# Altium integrated library Analog Devices Data Converters Digital-to-Analog Converters.IntLib: 2231 symbols (part 91 of 181)
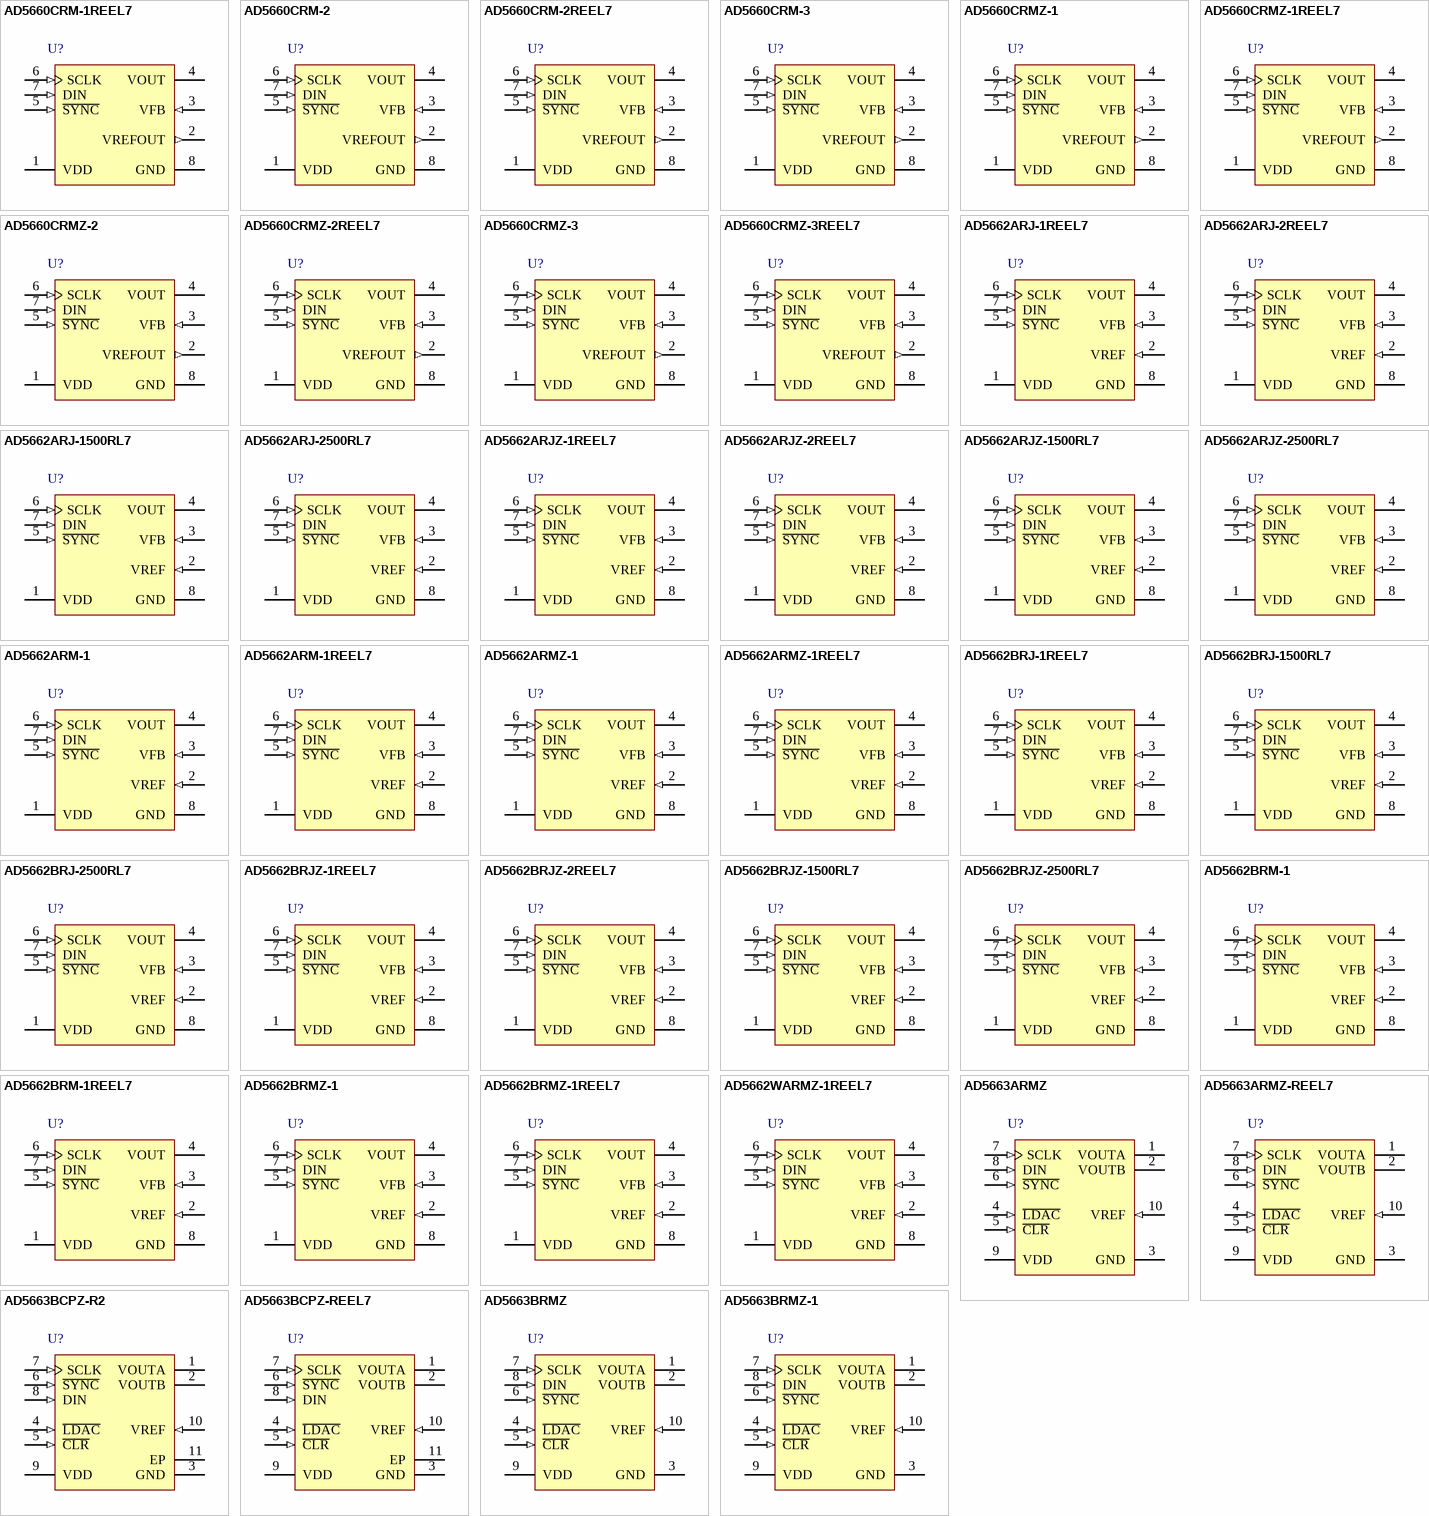
[diagram p204: symbols AD5660CRM-1REEL7 to AD5663BRMZ-1]

## AD5662BRJ-2500RL7
designator U?
Single 16-Bit Rail-to-Rail Output nanoDAC, 2.7 V to 5.5 V, 250 uA, -40 to +125 degC, RJ-8, Reel; Generic Part Number: AD5662; Manufacturer: Analog Devices; PartNumber: AD5662BRJ-2500RL7; # DAC Outputs: 1; Max V+: 5.5V; Op Pwr Diss: 1.25mW; Resolution (Bits): 16; Settling Time: 8µs; Single Supply: Yes; DatasheetVersion: Rev.A; PackageVersion: 121608-A; PackageReference: RJ-8; PackageDescription: 8-Lead Thin Small Outline Transistor Package [SOT-23]; Supplier 1: Digi-Key; Supplier Part Number 1: AD5662BRJ-2500RL7-ND; Supplier 2: Newark; Supplier Part Number 2: 59K4303; Supplier 3: Mouser; Supplier Part Number 3: 584-AD5662BRJ-2500R7; Packing: Reel; RoHS: N; Mounting Technology: Surface Mount; Code_JEDEC: MO-178-BA; ComponentLink1Description: Manufacturer URL; ComponentLink1URL: http://www.analog.com/en/index.html; ComponentLink2Description: Datasheet; ComponentLink2URL: http://www.analog.com/static/imported-files/data_sheets/AD5662.pdf; ComponentLink3Description: Package Specification; ComponentLink3URL: http://www.analog.com/static/imported-files/packages/PKG_PDF/SOT-23(RJ)/RJ_8.pdf; ComponentLink4Description: Product URL; ComponentLink4URL: http://www.analog.com/en/digital-to-analog-converters/da-converters/ad5662/products/product.html; ComponentLink5Description: Reference Design URL; ComponentLink5URL: http://www.analog.com/en/digital-to-analog-converters/da-converters/ad5662/products/product.html#prod_cross_sell
footprint RJ-8_N (SOP, 8-Leads, Body 2.9x1.6mm, Pitch 0.65mm, IPC Medium Density)
footprint RJ-8_L (SOP, 8-Leads, Body 2.9x1.6mm, Pitch 0.65mm, IPC High Density)
footprint RJ-8_M (SOP, 8-Leads, Body 2.9x1.6mm, Pitch 0.65mm, IPC Low Density)
pins: 1 VDD (power) "Power Supply Input. These parts can be operated from 2.7 V to 5.5 V. VDD should be decoupled to GND.", 2 VREF (in) "Reference Voltage Input.", 3 VFB (in) "Feedback Connection for the Output Amplifier. VFB should be connected to VOUT for normal operation.", 4 VOUT (hiz) "Analog Output Voltage from DAC. The output amplifier has rail-to-rail operation.", 5 ~{SYNC} (in) "Level-Triggered Control Input (Active Low). This is the frame synchronization signal for the input data. When S\Y\N\C\ goes low, it enables the input shift register, and data is transferred in on the falling edges of the (See Datasheet)", 6 SCLK (in) "Serial Clock Input. Data is clocked into the input shift register on the falling edge of the serial clock input. Data can be transferred at rates up to 30 MHz.", 7 DIN (in) "Serial Data Input. This device has a 24-bit shift register. Data is clocked into the register on the falling edge of the serial clock input.", 8 GND (power) "Ground Reference Point for All Circuitry on the Part."

## AD5662BRJZ-1REEL7
designator U?
Single 16-Bit Rail-to-Rail Output nanoDAC, 2.7 V to 5.5 V, 250 uA, -40 to +125 degC, RJ-8, Pb-Free, Reel; Generic Part Number: AD5662; Manufacturer: Analog Devices; PartNumber: AD5662BRJZ-1REEL7; # DAC Outputs: 1; Max V+: 5.5V; Op Pwr Diss: 1.25mW; Resolution (Bits): 16; Settling Time: 8µs; Single Supply: Yes; DatasheetVersion: Rev.A; PackageVersion: 121608-A; PackageReference: RJ-8; PackageDescription: 8-Lead Thin Small Outline Transistor Package [SOT-23]; Supplier 1: Digi-Key; Supplier Part Number 1: AD5662BRJZ-1REEL7TR-ND; Supplier 2: Digi-Key; Supplier Part Number 2: AD5662BRJZ-1REEL7CT-ND; Supplier 3: Digi-Key; Supplier Part Number 3: AD5662BRJZ-1REEL7DKR-ND; Supplier 4: Farnell; Supplier Part Number 4: 2314131; Supplier 5: Newark; Supplier Part Number 5: 67W3166; Supplier 6: Newark; Supplier Part Number 6: 28M4004; Supplier 7: Mouser; Supplier Part Number 7: 584-AD5662BRJZ-1R7; Packing: Reel; RoHS: Y; Mounting Technology: Surface Mount; Code_JEDEC: MO-178-BA; ComponentLink1Description: Manufacturer URL; ComponentLink1URL: http://www.analog.com/en/index.html; ComponentLink2Description: Datasheet; ComponentLink2URL: http://www.analog.com/static/imported-files/data_sheets/AD5662.pdf; ComponentLink3Description: Package Specification; ComponentLink3URL: http://www.analog.com/static/imported-files/packages/PKG_PDF/SOT-23(RJ)/RJ_8.pdf; ComponentLink4Description: Product URL; ComponentLink4URL: http://www.analog.com/en/digital-to-analog-converters/da-converters/ad5662/products/product.html; ComponentLink5Description: Reference Design URL; ComponentLink5URL: http://www.analog.com/en/digital-to-analog-converters/da-converters/ad5662/products/product.html#prod_cross_sell
footprint RJ-8_N (SOP, 8-Leads, Body 2.9x1.6mm, Pitch 0.65mm, IPC Medium Density)
footprint RJ-8_L (SOP, 8-Leads, Body 2.9x1.6mm, Pitch 0.65mm, IPC High Density)
footprint RJ-8_M (SOP, 8-Leads, Body 2.9x1.6mm, Pitch 0.65mm, IPC Low Density)
pins: 1 VDD (power) "Power Supply Input. These parts can be operated from 2.7 V to 5.5 V. VDD should be decoupled to GND.", 2 VREF (in) "Reference Voltage Input.", 3 VFB (in) "Feedback Connection for the Output Amplifier. VFB should be connected to VOUT for normal operation.", 4 VOUT (hiz) "Analog Output Voltage from DAC. The output amplifier has rail-to-rail operation.", 5 ~{SYNC} (in) "Level-Triggered Control Input (Active Low). This is the frame synchronization signal for the input data. When S\Y\N\C\ goes low, it enables the input shift register, and data is transferred in on the falling edges of the (See Datasheet)", 6 SCLK (in) "Serial Clock Input. Data is clocked into the input shift register on the falling edge of the serial clock input. Data can be transferred at rates up to 30 MHz.", 7 DIN (in) "Serial Data Input. This device has a 24-bit shift register. Data is clocked into the register on the falling edge of the serial clock input.", 8 GND (power) "Ground Reference Point for All Circuitry on the Part."

## AD5662BRJZ-2REEL7
designator U?
Single 16-Bit Rail-to-Rail Output nanoDAC, 2.7 V to 5.5 V, 250 uA, -40 to +125 degC, RJ-8, Pb-Free, Reel; Generic Part Number: AD5662; Manufacturer: Analog Devices; PartNumber: AD5662BRJZ-2REEL7; # DAC Outputs: 1; Max V+: 5.5V; Op Pwr Diss: 1.25mW; Resolution (Bits): 16; Settling Time: 8µs; Single Supply: Yes; DatasheetVersion: Rev.A; PackageVersion: 121608-A; PackageReference: RJ-8; PackageDescription: 8-Lead Thin Small Outline Transistor Package [SOT-23]; Supplier 1: Digi-Key; Supplier Part Number 1: AD5662BRJZ-2REEL7TR-ND; Supplier 2: Digi-Key; Supplier Part Number 2: AD5662BRJZ-2REEL7CT-ND; Supplier 3: Digi-Key; Supplier Part Number 3: AD5662BRJZ-2REEL7DKR-ND; Supplier 4: Farnell; Supplier Part Number 4: 2314132; Supplier 5: Newark; Supplier Part Number 5: 59K4304; Supplier 6: Newark; Supplier Part Number 6: 67W3167; Supplier 7: Mouser; Supplier Part Number 7: 584-AD5662BRJZ-2R7; Packing: Reel; RoHS: Y; Mounting Technology: Surface Mount; Code_JEDEC: MO-178-BA; ComponentLink1Description: Manufacturer URL; ComponentLink1URL: http://www.analog.com/en/index.html; ComponentLink2Description: Datasheet; ComponentLink2URL: http://www.analog.com/static/imported-files/data_sheets/AD5662.pdf; ComponentLink3Description: Package Specification; ComponentLink3URL: http://www.analog.com/static/imported-files/packages/PKG_PDF/SOT-23(RJ)/RJ_8.pdf; ComponentLink4Description: Product URL; ComponentLink4URL: http://www.analog.com/en/digital-to-analog-converters/da-converters/ad5662/products/product.html; ComponentLink5Description: Reference Design URL; ComponentLink5URL: http://www.analog.com/en/digital-to-analog-converters/da-converters/ad5662/products/product.html#prod_cross_sell
footprint RJ-8_N (SOP, 8-Leads, Body 2.9x1.6mm, Pitch 0.65mm, IPC Medium Density)
footprint RJ-8_L (SOP, 8-Leads, Body 2.9x1.6mm, Pitch 0.65mm, IPC High Density)
footprint RJ-8_M (SOP, 8-Leads, Body 2.9x1.6mm, Pitch 0.65mm, IPC Low Density)
pins: 1 VDD (power) "Power Supply Input. These parts can be operated from 2.7 V to 5.5 V. VDD should be decoupled to GND.", 2 VREF (in) "Reference Voltage Input.", 3 VFB (in) "Feedback Connection for the Output Amplifier. VFB should be connected to VOUT for normal operation.", 4 VOUT (hiz) "Analog Output Voltage from DAC. The output amplifier has rail-to-rail operation.", 5 ~{SYNC} (in) "Level-Triggered Control Input (Active Low). This is the frame synchronization signal for the input data. When S\Y\N\C\ goes low, it enables the input shift register, and data is transferred in on the falling edges of the (See Datasheet)", 6 SCLK (in) "Serial Clock Input. Data is clocked into the input shift register on the falling edge of the serial clock input. Data can be transferred at rates up to 30 MHz.", 7 DIN (in) "Serial Data Input. This device has a 24-bit shift register. Data is clocked into the register on the falling edge of the serial clock input.", 8 GND (power) "Ground Reference Point for All Circuitry on the Part."

## AD5662BRJZ-1500RL7
designator U?
Single 16-Bit Rail-to-Rail Output nanoDAC, 2.7 V to 5.5 V, 250 uA, -40 to +125 degC, RJ-8, Pb-Free, Reel; Generic Part Number: AD5662; Manufacturer: Analog Devices; PartNumber: AD5662BRJZ-1500RL7; # DAC Outputs: 1; Max V+: 5.5V; Op Pwr Diss: 1.25mW; Resolution (Bits): 16; Settling Time: 8µs; Single Supply: Yes; DatasheetVersion: Rev.A; PackageVersion: 121608-A; PackageReference: RJ-8; PackageDescription: 8-Lead Thin Small Outline Transistor Package [SOT-23]; Supplier 1: Digi-Key; Supplier Part Number 1: AD5662BRJZ-1500RL7-ND; Supplier 2: Mouser; Supplier Part Number 2: 584-AD5662BRJZ1500R7; Packing: Reel; RoHS: Y; Mounting Technology: Surface Mount; Code_JEDEC: MO-178-BA; ComponentLink1Description: Manufacturer URL; ComponentLink1URL: http://www.analog.com/en/index.html; ComponentLink2Description: Datasheet; ComponentLink2URL: http://www.analog.com/static/imported-files/data_sheets/AD5662.pdf; ComponentLink3Description: Package Specification; ComponentLink3URL: http://www.analog.com/static/imported-files/packages/PKG_PDF/SOT-23(RJ)/RJ_8.pdf; ComponentLink4Description: Product URL; ComponentLink4URL: http://www.analog.com/en/digital-to-analog-converters/da-converters/ad5662/products/product.html; ComponentLink5Description: Reference Design URL; ComponentLink5URL: http://www.analog.com/en/digital-to-analog-converters/da-converters/ad5662/products/product.html#prod_cross_sell
footprint RJ-8_N (SOP, 8-Leads, Body 2.9x1.6mm, Pitch 0.65mm, IPC Medium Density)
footprint RJ-8_L (SOP, 8-Leads, Body 2.9x1.6mm, Pitch 0.65mm, IPC High Density)
footprint RJ-8_M (SOP, 8-Leads, Body 2.9x1.6mm, Pitch 0.65mm, IPC Low Density)
pins: 1 VDD (power) "Power Supply Input. These parts can be operated from 2.7 V to 5.5 V. VDD should be decoupled to GND.", 2 VREF (in) "Reference Voltage Input.", 3 VFB (in) "Feedback Connection for the Output Amplifier. VFB should be connected to VOUT for normal operation.", 4 VOUT (hiz) "Analog Output Voltage from DAC. The output amplifier has rail-to-rail operation.", 5 ~{SYNC} (in) "Level-Triggered Control Input (Active Low). This is the frame synchronization signal for the input data. When S\Y\N\C\ goes low, it enables the input shift register, and data is transferred in on the falling edges of the (See Datasheet)", 6 SCLK (in) "Serial Clock Input. Data is clocked into the input shift register on the falling edge of the serial clock input. Data can be transferred at rates up to 30 MHz.", 7 DIN (in) "Serial Data Input. This device has a 24-bit shift register. Data is clocked into the register on the falling edge of the serial clock input.", 8 GND (power) "Ground Reference Point for All Circuitry on the Part."

## AD5662BRJZ-2500RL7
designator U?
Single 16-Bit Rail-to-Rail Output nanoDAC, 2.7 V to 5.5 V, 250 uA, -40 to +125 degC, RJ-8, Pb-Free, Reel; Generic Part Number: AD5662; Manufacturer: Analog Devices; PartNumber: AD5662BRJZ-2500RL7; # DAC Outputs: 1; Max V+: 5.5V; Op Pwr Diss: 1.25mW; Resolution (Bits): 16; Settling Time: 8µs; Single Supply: Yes; DatasheetVersion: Rev.A; PackageVersion: 121608-A; PackageReference: RJ-8; PackageDescription: 8-Lead Thin Small Outline Transistor Package [SOT-23]; Supplier 1: Digi-Key; Supplier Part Number 1: AD5662BRJZ-2500RL7TR-ND; Supplier 2: Digi-Key; Supplier Part Number 2: AD5662BRJZ-2500RL7CT-ND; Supplier 3: Digi-Key; Supplier Part Number 3: AD5662BRJZ-2500RL7DKR-ND; Supplier 4: Newark; Supplier Part Number 4: 59K4305; Supplier 5: Mouser; Supplier Part Number 5: 584-AD5662BRJZ2500R7; Packing: Reel; RoHS: Y; Mounting Technology: Surface Mount; Code_JEDEC: MO-178-BA; ComponentLink1Description: Manufacturer URL; ComponentLink1URL: http://www.analog.com/en/index.html; ComponentLink2Description: Datasheet; ComponentLink2URL: http://www.analog.com/static/imported-files/data_sheets/AD5662.pdf; ComponentLink3Description: Package Specification; ComponentLink3URL: http://www.analog.com/static/imported-files/packages/PKG_PDF/SOT-23(RJ)/RJ_8.pdf; ComponentLink4Description: Product URL; ComponentLink4URL: http://www.analog.com/en/digital-to-analog-converters/da-converters/ad5662/products/product.html; ComponentLink5Description: Reference Design URL; ComponentLink5URL: http://www.analog.com/en/digital-to-analog-converters/da-converters/ad5662/products/product.html#prod_cross_sell
footprint RJ-8_N (SOP, 8-Leads, Body 2.9x1.6mm, Pitch 0.65mm, IPC Medium Density)
footprint RJ-8_L (SOP, 8-Leads, Body 2.9x1.6mm, Pitch 0.65mm, IPC High Density)
footprint RJ-8_M (SOP, 8-Leads, Body 2.9x1.6mm, Pitch 0.65mm, IPC Low Density)
pins: 1 VDD (power) "Power Supply Input. These parts can be operated from 2.7 V to 5.5 V. VDD should be decoupled to GND.", 2 VREF (in) "Reference Voltage Input.", 3 VFB (in) "Feedback Connection for the Output Amplifier. VFB should be connected to VOUT for normal operation.", 4 VOUT (hiz) "Analog Output Voltage from DAC. The output amplifier has rail-to-rail operation.", 5 ~{SYNC} (in) "Level-Triggered Control Input (Active Low). This is the frame synchronization signal for the input data. When S\Y\N\C\ goes low, it enables the input shift register, and data is transferred in on the falling edges of the (See Datasheet)", 6 SCLK (in) "Serial Clock Input. Data is clocked into the input shift register on the falling edge of the serial clock input. Data can be transferred at rates up to 30 MHz.", 7 DIN (in) "Serial Data Input. This device has a 24-bit shift register. Data is clocked into the register on the falling edge of the serial clock input.", 8 GND (power) "Ground Reference Point for All Circuitry on the Part."

## AD5662BRM-1
designator U?
Single 16-Bit Rail-to-Rail Output nanoDAC, 2.7 V to 5.5 V, 250 uA, -40 to +125 degC, RM-8, Tube; Generic Part Number: AD5662; Manufacturer: Analog Devices; PartNumber: AD5662BRM-1; # DAC Outputs: 1; Max V+: 5.5V; Op Pwr Diss: 1.25mW; Resolution (Bits): 16; Settling Time: 8µs; Single Supply: Yes; DatasheetVersion: Rev.A; PackageVersion: Aug-2005; PackageReference: RM-8; PackageDescription: 8-Lead Mini Small Outline Package [MSOP]; Supplier 1: Digi-Key; Supplier Part Number 1: AD5662BRM-1-ND; Supplier 2: Mouser; Supplier Part Number 2: 584-AD5662BRM-1; Packing: Tube; RoHS: N; Mounting Technology: Surface Mount; Code_JEDEC: MO-187-AA; ComponentLink1Description: Manufacturer URL; ComponentLink1URL: http://www.analog.com/en/index.html; ComponentLink2Description: Datasheet; ComponentLink2URL: http://www.analog.com/static/imported-files/data_sheets/AD5662.pdf; ComponentLink3Description: Package Specification; ComponentLink3URL: http://www.analog.com/static/imported-files/packages/PKG_PDF/MSOP%28RM%29/RM_8.pdf; ComponentLink4Description: Product URL; ComponentLink4URL: http://www.analog.com/en/digital-to-analog-converters/da-converters/ad5662/products/product.html; ComponentLink5Description: Reference Design URL; ComponentLink5URL: http://www.analog.com/en/digital-to-analog-converters/da-converters/ad5662/products/product.html#prod_cross_sell
footprint RM-8_N (TSOP, 8-Leads, Body 3x3mm, Pitch 0.65mm, IPC Medium Density)
footprint RM-8_L (TSOP, 8-Leads, Body 3x3mm, Pitch 0.65mm, IPC High Density)
footprint RM-8_M (TSOP, 8-Leads, Body 3x3mm, Pitch 0.65mm, IPC Low Density)
pins: 1 VDD (power) "Power Supply Input. These parts can be operated from 2.7 V to 5.5 V. VDD should be decoupled to GND.", 2 VREF (in) "Reference Voltage Input.", 3 VFB (in) "Feedback Connection for the Output Amplifier. VFB should be connected to VOUT for normal operation.", 4 VOUT (hiz) "Analog Output Voltage from DAC. The output amplifier has rail-to-rail operation.", 5 ~{SYNC} (in) "Level-Triggered Control Input (Active Low). This is the frame synchronization signal for the input data. When S\Y\N\C\ goes low, it enables the input shift register, and data is transferred in on the falling edges of the (See Datasheet)", 6 SCLK (in) "Serial Clock Input. Data is clocked into the input shift register on the falling edge of the serial clock input. Data can be transferred at rates up to 30 MHz.", 7 DIN (in) "Serial Data Input. This device has a 24-bit shift register. Data is clocked into the register on the falling edge of the serial clock input.", 8 GND (power) "Ground Reference Point for All Circuitry on the Part."

## AD5662BRM-1REEL7
designator U?
Single 16-Bit Rail-to-Rail Output nanoDAC, 2.7 V to 5.5 V, 250 uA, -40 to +125 degC, RM-8, Reel; Generic Part Number: AD5662; Manufacturer: Analog Devices; PartNumber: AD5662BRM-1REEL7; # DAC Outputs: 1; Max V+: 5.5V; Op Pwr Diss: 1.25mW; Resolution (Bits): 16; Settling Time: 8µs; Single Supply: Yes; DatasheetVersion: Rev.A; PackageVersion: Aug-2005; PackageReference: RM-8; PackageDescription: 8-Lead Mini Small Outline Package [MSOP]; Supplier 1: Digi-Key; Supplier Part Number 1: AD5662BRM-1REEL7-ND; Supplier 2: Mouser; Supplier Part Number 2: 584-AD5662BRM-1R7; Packing: Reel; RoHS: N; Mounting Technology: Surface Mount; Code_JEDEC: MO-187-AA; ComponentLink1Description: Manufacturer URL; ComponentLink1URL: http://www.analog.com/en/index.html; ComponentLink2Description: Datasheet; ComponentLink2URL: http://www.analog.com/static/imported-files/data_sheets/AD5662.pdf; ComponentLink3Description: Package Specification; ComponentLink3URL: http://www.analog.com/static/imported-files/packages/PKG_PDF/MSOP%28RM%29/RM_8.pdf; ComponentLink4Description: Product URL; ComponentLink4URL: http://www.analog.com/en/digital-to-analog-converters/da-converters/ad5662/products/product.html; ComponentLink5Description: Reference Design URL; ComponentLink5URL: http://www.analog.com/en/digital-to-analog-converters/da-converters/ad5662/products/product.html#prod_cross_sell
footprint RM-8_N (TSOP, 8-Leads, Body 3x3mm, Pitch 0.65mm, IPC Medium Density)
footprint RM-8_L (TSOP, 8-Leads, Body 3x3mm, Pitch 0.65mm, IPC High Density)
footprint RM-8_M (TSOP, 8-Leads, Body 3x3mm, Pitch 0.65mm, IPC Low Density)
pins: 1 VDD (power) "Power Supply Input. These parts can be operated from 2.7 V to 5.5 V. VDD should be decoupled to GND.", 2 VREF (in) "Reference Voltage Input.", 3 VFB (in) "Feedback Connection for the Output Amplifier. VFB should be connected to VOUT for normal operation.", 4 VOUT (hiz) "Analog Output Voltage from DAC. The output amplifier has rail-to-rail operation.", 5 ~{SYNC} (in) "Level-Triggered Control Input (Active Low). This is the frame synchronization signal for the input data. When S\Y\N\C\ goes low, it enables the input shift register, and data is transferred in on the falling edges of the (See Datasheet)", 6 SCLK (in) "Serial Clock Input. Data is clocked into the input shift register on the falling edge of the serial clock input. Data can be transferred at rates up to 30 MHz.", 7 DIN (in) "Serial Data Input. This device has a 24-bit shift register. Data is clocked into the register on the falling edge of the serial clock input.", 8 GND (power) "Ground Reference Point for All Circuitry on the Part."

## AD5662BRMZ-1
designator U?
Single 16-Bit Rail-to-Rail Output nanoDAC, 2.7 V to 5.5 V, 250 uA, -40 to +125 degC, RM-8, Pb-Free, Tube; Generic Part Number: AD5662; Manufacturer: Analog Devices; PartNumber: AD5662BRMZ-1; # DAC Outputs: 1; Max V+: 5.5V; Op Pwr Diss: 1.25mW; Resolution (Bits): 16; Settling Time: 8µs; Single Supply: Yes; DatasheetVersion: Rev.A; PackageVersion: Aug-2005; PackageReference: RM-8; PackageDescription: 8-Lead Mini Small Outline Package [MSOP]; Supplier 1: Digi-Key; Supplier Part Number 1: AD5662BRMZ-1-ND; Supplier 2: Farnell; Supplier Part Number 2: 1117908; Supplier 3: Newark; Supplier Part Number 3: 31M4143; Supplier 4: Newark; Supplier Part Number 4: 59K4308; Supplier 5: Mouser; Supplier Part Number 5: 584-AD5662BRMZ-1; Packing: Tube; RoHS: Y; Mounting Technology: Surface Mount; Code_JEDEC: MO-187-AA; ComponentLink1Description: Manufacturer URL; ComponentLink1URL: http://www.analog.com/en/index.html; ComponentLink2Description: Datasheet; ComponentLink2URL: http://www.analog.com/static/imported-files/data_sheets/AD5662.pdf; ComponentLink3Description: Package Specification; ComponentLink3URL: http://www.analog.com/static/imported-files/packages/PKG_PDF/MSOP%28RM%29/RM_8.pdf; ComponentLink4Description: Product URL; ComponentLink4URL: http://www.analog.com/en/digital-to-analog-converters/da-converters/ad5662/products/product.html; ComponentLink5Description: Reference Design URL; ComponentLink5URL: http://www.analog.com/en/digital-to-analog-converters/da-converters/ad5662/products/product.html#prod_cross_sell
footprint RM-8_N (TSOP, 8-Leads, Body 3x3mm, Pitch 0.65mm, IPC Medium Density)
footprint RM-8_L (TSOP, 8-Leads, Body 3x3mm, Pitch 0.65mm, IPC High Density)
footprint RM-8_M (TSOP, 8-Leads, Body 3x3mm, Pitch 0.65mm, IPC Low Density)
pins: 1 VDD (power) "Power Supply Input. These parts can be operated from 2.7 V to 5.5 V. VDD should be decoupled to GND.", 2 VREF (in) "Reference Voltage Input.", 3 VFB (in) "Feedback Connection for the Output Amplifier. VFB should be connected to VOUT for normal operation.", 4 VOUT (hiz) "Analog Output Voltage from DAC. The output amplifier has rail-to-rail operation.", 5 ~{SYNC} (in) "Level-Triggered Control Input (Active Low). This is the frame synchronization signal for the input data. When S\Y\N\C\ goes low, it enables the input shift register, and data is transferred in on the falling edges of the (See Datasheet)", 6 SCLK (in) "Serial Clock Input. Data is clocked into the input shift register on the falling edge of the serial clock input. Data can be transferred at rates up to 30 MHz.", 7 DIN (in) "Serial Data Input. This device has a 24-bit shift register. Data is clocked into the register on the falling edge of the serial clock input.", 8 GND (power) "Ground Reference Point for All Circuitry on the Part."

## AD5662BRMZ-1REEL7
designator U?
Single 16-Bit Rail-to-Rail Output nanoDAC, 2.7 V to 5.5 V, 250 uA, -40 to +125 degC, RM-8, Pb-Free, Reel; Generic Part Number: AD5662; Manufacturer: Analog Devices; PartNumber: AD5662BRMZ-1REEL7; # DAC Outputs: 1; Max V+: 5.5V; Op Pwr Diss: 1.25mW; Resolution (Bits): 16; Settling Time: 8µs; Single Supply: Yes; DatasheetVersion: Rev.A; PackageVersion: Aug-2005; PackageReference: RM-8; PackageDescription: 8-Lead Mini Small Outline Package [MSOP]; Supplier 1: Digi-Key; Supplier Part Number 1: AD5662BRMZ-1REEL7-ND; Supplier 2: Mouser; Supplier Part Number 2: 584-AD5662BRMZ-1R7; Packing: Reel; RoHS: Y; Mounting Technology: Surface Mount; Code_JEDEC: MO-187-AA; ComponentLink1Description: Manufacturer URL; ComponentLink1URL: http://www.analog.com/en/index.html; ComponentLink2Description: Datasheet; ComponentLink2URL: http://www.analog.com/static/imported-files/data_sheets/AD5662.pdf; ComponentLink3Description: Package Specification; ComponentLink3URL: http://www.analog.com/static/imported-files/packages/PKG_PDF/MSOP%28RM%29/RM_8.pdf; ComponentLink4Description: Product URL; ComponentLink4URL: http://www.analog.com/en/digital-to-analog-converters/da-converters/ad5662/products/product.html; ComponentLink5Description: Reference Design URL; ComponentLink5URL: http://www.analog.com/en/digital-to-analog-converters/da-converters/ad5662/products/product.html#prod_cross_sell
footprint RM-8_N (TSOP, 8-Leads, Body 3x3mm, Pitch 0.65mm, IPC Medium Density)
footprint RM-8_L (TSOP, 8-Leads, Body 3x3mm, Pitch 0.65mm, IPC High Density)
footprint RM-8_M (TSOP, 8-Leads, Body 3x3mm, Pitch 0.65mm, IPC Low Density)
pins: 1 VDD (power) "Power Supply Input. These parts can be operated from 2.7 V to 5.5 V. VDD should be decoupled to GND.", 2 VREF (in) "Reference Voltage Input.", 3 VFB (in) "Feedback Connection for the Output Amplifier. VFB should be connected to VOUT for normal operation.", 4 VOUT (hiz) "Analog Output Voltage from DAC. The output amplifier has rail-to-rail operation.", 5 ~{SYNC} (in) "Level-Triggered Control Input (Active Low). This is the frame synchronization signal for the input data. When S\Y\N\C\ goes low, it enables the input shift register, and data is transferred in on the falling edges of the (See Datasheet)", 6 SCLK (in) "Serial Clock Input. Data is clocked into the input shift register on the falling edge of the serial clock input. Data can be transferred at rates up to 30 MHz.", 7 DIN (in) "Serial Data Input. This device has a 24-bit shift register. Data is clocked into the register on the falling edge of the serial clock input.", 8 GND (power) "Ground Reference Point for All Circuitry on the Part."

## AD5662WARMZ-1REEL7
designator U?
Single 16-Bit Rail-to-Rail Output nanoDAC, 2.7 V to 5.5 V, 250 uA, -40 to +125 degC, RM-8, Pb-Free, Reel; Generic Part Number: AD5662; Manufacturer: Analog Devices; PartNumber: AD5662WARMZ-1REEL7; # DAC Outputs: 1; Max V+: 5.5V; Op Pwr Diss: 1.25mW; Resolution (Bits): 16; Settling Time: 8µs; Single Supply: Yes; DatasheetVersion: Rev.A; PackageVersion: Aug-2005; PackageReference: RM-8; PackageDescription: 8-Lead Mini Small Outline Package [MSOP]; Supplier 1: Digi-Key; Supplier Part Number 1: AD5662WARMZ-1REEL7TR-ND; Supplier 2: Digi-Key; Supplier Part Number 2: AD5662WARMZ-1REEL7CT-ND; Supplier 3: Digi-Key; Supplier Part Number 3: AD5662WARMZ-1REEL7DKR-ND; Supplier 4: Mouser; Supplier Part Number 4: 584-AD5662WARMZ1R7; Packing: Reel; RoHS: Y; Mounting Technology: Surface Mount; Code_JEDEC: MO-187-AA; ComponentLink1Description: Manufacturer URL; ComponentLink1URL: http://www.analog.com/en/index.html; ComponentLink2Description: Datasheet; ComponentLink2URL: http://www.analog.com/static/imported-files/data_sheets/AD5662.pdf; ComponentLink3Description: Package Specification; ComponentLink3URL: http://www.analog.com/static/imported-files/packages/PKG_PDF/MSOP%28RM%29/RM_8.pdf; ComponentLink4Description: Product URL; ComponentLink4URL: http://www.analog.com/en/digital-to-analog-converters/da-converters/ad5662/products/product.html; ComponentLink5Description: Reference Design URL; ComponentLink5URL: http://www.analog.com/en/digital-to-analog-converters/da-converters/ad5662/products/product.html#prod_cross_sell
footprint RM-8_N (TSOP, 8-Leads, Body 3x3mm, Pitch 0.65mm, IPC Medium Density)
footprint RM-8_L (TSOP, 8-Leads, Body 3x3mm, Pitch 0.65mm, IPC High Density)
footprint RM-8_M (TSOP, 8-Leads, Body 3x3mm, Pitch 0.65mm, IPC Low Density)
pins: 1 VDD (power) "Power Supply Input. These parts can be operated from 2.7 V to 5.5 V. VDD should be decoupled to GND.", 2 VREF (in) "Reference Voltage Input.", 3 VFB (in) "Feedback Connection for the Output Amplifier. VFB should be connected to VOUT for normal operation.", 4 VOUT (hiz) "Analog Output Voltage from DAC. The output amplifier has rail-to-rail operation.", 5 ~{SYNC} (in) "Level-Triggered Control Input (Active Low). This is the frame synchronization signal for the input data. When S\Y\N\C\ goes low, it enables the input shift register, and data is transferred in on the falling edges of the (See Datasheet)", 6 SCLK (in) "Serial Clock Input. Data is clocked into the input shift register on the falling edge of the serial clock input. Data can be transferred at rates up to 30 MHz.", 7 DIN (in) "Serial Data Input. This device has a 24-bit shift register. Data is clocked into the register on the falling edge of the serial clock input.", 8 GND (power) "Ground Reference Point for All Circuitry on the Part."

## AD5663ARMZ
designator U?
Dual 16-Bit Rail-to-Rail Output nanoDAC, 2.7 to 5.5 V, 250 uA, -40 to +105 degC, RM-10, Pb-Free, Tube; Generic Part Number: AD5663; Manufacturer: Analog Devices; PartNumber: AD5663ARMZ; # DAC Outputs: 2; Max V+: 5.5V; Op Pwr Diss: 2.5mW; Resolution (Bits): 16; Settling Time: 4µs; Single Supply: Yes; DatasheetVersion: Rev.0; PackageVersion: May-2005; PackageReference: RM-10; PackageDescription: 10-Lead Mini Small Outline Package [MSOP]; Supplier 1: Digi-Key; Supplier Part Number 1: AD5663ARMZ-ND; Supplier 2: Farnell; Supplier Part Number 2: 1274264; Supplier 3: Newark; Supplier Part Number 3: 19M0833; Supplier 4: Mouser; Supplier Part Number 4: 584-AD5663ARMZ; Packing: Tube; RoHS: Y; Mounting Technology: Surface Mount; ComponentLink1Description: Manufacturer URL; ComponentLink1URL: http://www.analog.com/en/index.html; ComponentLink2Description: Datasheet; ComponentLink2URL: http://www.analog.com/static/imported-files/data_sheets/AD5663.pdf; ComponentLink3Description: Package Specification; ComponentLink3URL: http://www.analog.com/static/imported-files/packages/PKG_PDF/MSOP%28RM%29/RM_10.pdf; ComponentLink4Description: Product URL; ComponentLink4URL: http://www.analog.com/en/digital-to-analog-converters/da-converters/ad5663/products/product.html
footprint RM-10_N (TSSOP, 10-Leads, Body 3x3mm, Pitch 0.5mm, IPC Medium Density)
footprint RM-10_L (TSSOP, 10-Leads, Body 3x3mm, Pitch 0.5mm, IPC High Density)
footprint RM-10_M (TSSOP, 10-Leads, Body 3x3mm, Pitch 0.5mm, IPC Low Density)
pins: 1 VOUTA (hiz) "Analog Output Voltage from DAC A. The output amplifier has rail-to-rail operation.", 2 VOUTB (hiz) "Analog Output Voltage from DAC B. The output amplifier has rail-to-rail operation.", 3 GND (power) "Ground Reference Point for All Circuitry on the Part.", 4 ~{LDAC} (in) "Pulsing this pin low allows any or all DAC registers to be updated if the input registers have new data.This allows simultaneous update of all DAC outputs. Alternatively, this pin can be tied permanently low.", 5 ~{CLR} (in) "Asynchronous Clear Input. The C\L\R\ input is falling edge sensitive. While C\L\R\ is low, all L\D\A\C\ pulses are ignored.When C\L\R\ is activated, zero scale is loaded to all input and DAC registers. This clears the output (See Datasheet)", 6 ~{SYNC} (in) "Active Low Control Input. This is the frame synchronization signal for the input data. When S\Y\N\C\ goes low,it powers on the SCLK and DIN buffers and enables the input shift register. Data is transferred in on the falling (See Datasheet)", 7 SCLK (in) "Serial Clock Input. Data is clocked into the input shift register on the falling edge of the serial clock input.Data can be transferred at rates up to 50 MHz.", 8 DIN (in) "Serial Data Input. This device has a 24-bit shift register. Data is clocked into the register on the falling edge of the serial clock input.", 9 VDD (power) "Power Supply Input. These parts can be operated from 2.7 V to 5.5 V, and the supply should be decoupled with a 10 uF capacitor in parallel with a 0.1 uF capacitor to GND.", 10 VREF (in) "Reference Voltage Input."

## AD5663ARMZ-REEL7
designator U?
Dual 16-Bit Rail-to-Rail Output nanoDAC, 2.7 to 5.5 V, 250 uA, -40 to +105 degC, RM-10, Pb-Free, Reel; Generic Part Number: AD5663; Manufacturer: Analog Devices; PartNumber: AD5663ARMZ-REEL7; # DAC Outputs: 2; Max V+: 5.5V; Op Pwr Diss: 2.5mW; Resolution (Bits): 16; Settling Time: 4µs; Single Supply: Yes; DatasheetVersion: Rev.0; PackageVersion: May-2005; PackageReference: RM-10; PackageDescription: 10-Lead Mini Small Outline Package [MSOP]; Supplier 1: Digi-Key; Supplier Part Number 1: AD5663ARMZ-REEL7-ND; Supplier 2: Mouser; Supplier Part Number 2: 584-AD5663ARMZ-R7; Packing: Reel; RoHS: Y; Mounting Technology: Surface Mount; ComponentLink1Description: Manufacturer URL; ComponentLink1URL: http://www.analog.com/en/index.html; ComponentLink2Description: Datasheet; ComponentLink2URL: http://www.analog.com/static/imported-files/data_sheets/AD5663.pdf; ComponentLink3Description: Package Specification; ComponentLink3URL: http://www.analog.com/static/imported-files/packages/PKG_PDF/MSOP%28RM%29/RM_10.pdf; ComponentLink4Description: Product URL; ComponentLink4URL: http://www.analog.com/en/digital-to-analog-converters/da-converters/ad5663/products/product.html
footprint RM-10_N (TSSOP, 10-Leads, Body 3x3mm, Pitch 0.5mm, IPC Medium Density)
footprint RM-10_L (TSSOP, 10-Leads, Body 3x3mm, Pitch 0.5mm, IPC High Density)
footprint RM-10_M (TSSOP, 10-Leads, Body 3x3mm, Pitch 0.5mm, IPC Low Density)
pins: 1 VOUTA (hiz) "Analog Output Voltage from DAC A. The output amplifier has rail-to-rail operation.", 2 VOUTB (hiz) "Analog Output Voltage from DAC B. The output amplifier has rail-to-rail operation.", 3 GND (power) "Ground Reference Point for All Circuitry on the Part.", 4 ~{LDAC} (in) "Pulsing this pin low allows any or all DAC registers to be updated if the input registers have new data.This allows simultaneous update of all DAC outputs. Alternatively, this pin can be tied permanently low.", 5 ~{CLR} (in) "Asynchronous Clear Input. The C\L\R\ input is falling edge sensitive. While C\L\R\ is low, all L\D\A\C\ pulses are ignored.When C\L\R\ is activated, zero scale is loaded to all input and DAC registers. This clears the output (See Datasheet)", 6 ~{SYNC} (in) "Active Low Control Input. This is the frame synchronization signal for the input data. When S\Y\N\C\ goes low,it powers on the SCLK and DIN buffers and enables the input shift register. Data is transferred in on the falling (See Datasheet)", 7 SCLK (in) "Serial Clock Input. Data is clocked into the input shift register on the falling edge of the serial clock input.Data can be transferred at rates up to 50 MHz.", 8 DIN (in) "Serial Data Input. This device has a 24-bit shift register. Data is clocked into the register on the falling edge of the serial clock input.", 9 VDD (power) "Power Supply Input. These parts can be operated from 2.7 V to 5.5 V, and the supply should be decoupled with a 10 uF capacitor in parallel with a 0.1 uF capacitor to GND.", 10 VREF (in) "Reference Voltage Input."

## AD5663BCPZ-R2
designator U?
Dual 16-Bit Rail-to-Rail Output nanoDAC, 2.7 to 5.5 V, 250 uA, -40 to +105 degC, CP-10-9, Pb-Free, Reel; Generic Part Number: AD5663; Manufacturer: Analog Devices; PartNumber: AD5663BCPZ-R2; # DAC Outputs: 2; Max V+: 5.5V; Op Pwr Diss: 2.5mW; Resolution (Bits): 16; Settling Time: 4µs; Single Supply: Yes; DatasheetVersion: Rev.0; PackageVersion: 02-27-2012-B; PackageReference: CP-10-9; PackageDescription: 10-Lead Lead Frame Chip Scale Package [LFCSP_WD] 3 x 3 mm Body, Very Very Thin, Dual Lead; Supplier 1: Digi-Key; Supplier Part Number 1: AD5663BCPZ-R2TR-ND; Supplier 2: Digi-Key; Supplier Part Number 2: AD5663BCPZ-R2CT-ND; Supplier 3: Digi-Key; Supplier Part Number 3: AD5663BCPZ-R2DKR-ND; Supplier 4: Mouser; Supplier Part Number 4: 584-AD5663BCPZ-R2; Packing: Reel; RoHS: Y; Mounting Technology: Surface Mount; ComponentLink1Description: Manufacturer URL; ComponentLink1URL: http://www.analog.com/en/index.html; ComponentLink2Description: Datasheet; ComponentLink2URL: http://www.analog.com/static/imported-files/data_sheets/AD5663.pdf; ComponentLink3Description: Package Specification; ComponentLink3URL: http://www.analog.com/static/imported-files/packages/CP_10_9.pdf; ComponentLink4Description: Product URL; ComponentLink4URL: http://www.analog.com/en/digital-to-analog-converters/da-converters/ad5663/products/product.html
footprint CP-10-9_N (SON, 10-Leads, Body 3x3mm, Pitch 0.5mm, Thermal Pad 2.35x1.6mm, IPC Medium Density)
footprint CP-10-9_L (SON, 10-Leads, Body 3x3mm, Pitch 0.5mm, Thermal Pad 2.35x1.6mm, IPC High Density)
footprint CP-10-9_M (SON, 10-Leads, Body 3x3mm, Pitch 0.5mm, Thermal Pad 2.35x1.6mm, IPC Low Density)
pins: 1 VOUTA (hiz) "Analog Output Voltage from DAC A. The output amplifier has rail-to-rail operation.", 2 VOUTB (hiz) "Analog Output Voltage from DAC B. The output amplifier has rail-to-rail operation.", 3 GND (power) "Ground Reference Point for All Circuitry on the Part.", 4 ~{LDAC} (in) "Pulsing this pin low allows any or all DAC registers to be updated if the input registers have new data.This allows simultaneous update of all DAC outputs. Alternatively, this pin can be tied permanently low.", 5 ~{CLR} (in) "Asynchronous Clear Input. The C\L\R\ input is falling edge sensitive. While C\L\R\ is low, all L\D\A\C\ pulses are ignored.When C\L\R\ is activated, zero scale is loaded to all input and DAC registers. This clears the output (See Datasheet)", 6 ~{SYNC} (in) "Active Low Control Input. This is the frame synchronization signal for the input data. When S\Y\N\C\ goes low,it powers on the SCLK and DIN buffers and enables the input shift register. Data is transferred in on the falling (See Datasheet)", 7 SCLK (in) "Serial Clock Input. Data is clocked into the input shift register on the falling edge of the serial clock input.Data can be transferred at rates up to 50 MHz.", 8 DIN (in) "Serial Data Input. This device has a 24-bit shift register. Data is clocked into the register on the falling edge of the serial clock input.", 9 VDD (power) "Power Supply Input. These parts can be operated from 2.7 V to 5.5 V, and the supply should be decoupled with a 10 uF capacitor in parallel with a 0.1 uF capacitor to GND.", 10 VREF (in) "Reference Voltage Input.", 11 EP "Exposed pad."

## AD5663BCPZ-REEL7
designator U?
Dual 16-Bit Rail-to-Rail Output nanoDAC, 2.7 to 5.5 V, 250 uA, -40 to +105 degC, CP-10-9, Pb-Free, Reel; Generic Part Number: AD5663; Manufacturer: Analog Devices; PartNumber: AD5663BCPZ-REEL7; # DAC Outputs: 2; Max V+: 5.5V; Op Pwr Diss: 2.5mW; Resolution (Bits): 16; Settling Time: 4µs; Single Supply: Yes; DatasheetVersion: Rev.0; PackageVersion: 02-27-2012-B; PackageReference: CP-10-9; PackageDescription: 10-Lead Lead Frame Chip Scale Package [LFCSP_WD] 3 x 3 mm Body, Very Very Thin, Dual Lead; Supplier 1: Digi-Key; Supplier Part Number 1: AD5663BCPZ-REEL7TR-ND; Supplier 2: Digi-Key; Supplier Part Number 2: AD5663BCPZ-REEL7CT-ND; Supplier 3: Digi-Key; Supplier Part Number 3: AD5663BCPZ-REEL7DKR-ND; Supplier 4: Mouser; Supplier Part Number 4: 584-AD5663BCPZ-R7; Packing: Reel; RoHS: Y; Mounting Technology: Surface Mount; ComponentLink1Description: Manufacturer URL; ComponentLink1URL: http://www.analog.com/en/index.html; ComponentLink2Description: Datasheet; ComponentLink2URL: http://www.analog.com/static/imported-files/data_sheets/AD5663.pdf; ComponentLink3Description: Package Specification; ComponentLink3URL: http://www.analog.com/static/imported-files/packages/CP_10_9.pdf; ComponentLink4Description: Product URL; ComponentLink4URL: http://www.analog.com/en/digital-to-analog-converters/da-converters/ad5663/products/product.html
footprint CP-10-9_N (SON, 10-Leads, Body 3x3mm, Pitch 0.5mm, Thermal Pad 2.35x1.6mm, IPC Medium Density)
footprint CP-10-9_L (SON, 10-Leads, Body 3x3mm, Pitch 0.5mm, Thermal Pad 2.35x1.6mm, IPC High Density)
footprint CP-10-9_M (SON, 10-Leads, Body 3x3mm, Pitch 0.5mm, Thermal Pad 2.35x1.6mm, IPC Low Density)
pins: 1 VOUTA (hiz) "Analog Output Voltage from DAC A. The output amplifier has rail-to-rail operation.", 2 VOUTB (hiz) "Analog Output Voltage from DAC B. The output amplifier has rail-to-rail operation.", 3 GND (power) "Ground Reference Point for All Circuitry on the Part.", 4 ~{LDAC} (in) "Pulsing this pin low allows any or all DAC registers to be updated if the input registers have new data.This allows simultaneous update of all DAC outputs. Alternatively, this pin can be tied permanently low.", 5 ~{CLR} (in) "Asynchronous Clear Input. The C\L\R\ input is falling edge sensitive. While C\L\R\ is low, all L\D\A\C\ pulses are ignored.When C\L\R\ is activated, zero scale is loaded to all input and DAC registers. This clears the output (See Datasheet)", 6 ~{SYNC} (in) "Active Low Control Input. This is the frame synchronization signal for the input data. When S\Y\N\C\ goes low,it powers on the SCLK and DIN buffers and enables the input shift register. Data is transferred in on the falling (See Datasheet)", 7 SCLK (in) "Serial Clock Input. Data is clocked into the input shift register on the falling edge of the serial clock input.Data can be transferred at rates up to 50 MHz.", 8 DIN (in) "Serial Data Input. This device has a 24-bit shift register. Data is clocked into the register on the falling edge of the serial clock input.", 9 VDD (power) "Power Supply Input. These parts can be operated from 2.7 V to 5.5 V, and the supply should be decoupled with a 10 uF capacitor in parallel with a 0.1 uF capacitor to GND.", 10 VREF (in) "Reference Voltage Input.", 11 EP "Exposed pad."

## AD5663BRMZ
designator U?
Dual 16-Bit Rail-to-Rail Output nanoDAC, 2.7 to 5.5 V, 250 uA, -40 to +105 degC, RM-10, Pb-Free, Tube; Generic Part Number: AD5663; Manufacturer: Analog Devices; PartNumber: AD5663BRMZ; # DAC Outputs: 2; Max V+: 5.5V; Op Pwr Diss: 2.5mW; Resolution (Bits): 16; Settling Time: 4µs; Single Supply: Yes; DatasheetVersion: Rev.0; PackageVersion: May-2005; PackageReference: RM-10; PackageDescription: 10-Lead Mini Small Outline Package [MSOP]; Supplier 1: Digi-Key; Supplier Part Number 1: AD5663BRMZ-ND; Supplier 2: Farnell; Supplier Part Number 2: 1274263; Supplier 3: Newark; Supplier Part Number 3: 31M4145; Supplier 4: Newark; Supplier Part Number 4: 19M0834; Supplier 5: Mouser; Supplier Part Number 5: 584-AD5663BRMZ; Packing: Tube; RoHS: Y; Mounting Technology: Surface Mount; ComponentLink1Description: Manufacturer URL; ComponentLink1URL: http://www.analog.com/en/index.html; ComponentLink2Description: Datasheet; ComponentLink2URL: http://www.analog.com/static/imported-files/data_sheets/AD5663.pdf; ComponentLink3Description: Package Specification; ComponentLink3URL: http://www.analog.com/static/imported-files/packages/PKG_PDF/MSOP%28RM%29/RM_10.pdf; ComponentLink4Description: Product URL; ComponentLink4URL: http://www.analog.com/en/digital-to-analog-converters/da-converters/ad5663/products/product.html
footprint RM-10_N (TSSOP, 10-Leads, Body 3x3mm, Pitch 0.5mm, IPC Medium Density)
footprint RM-10_L (TSSOP, 10-Leads, Body 3x3mm, Pitch 0.5mm, IPC High Density)
footprint RM-10_M (TSSOP, 10-Leads, Body 3x3mm, Pitch 0.5mm, IPC Low Density)
pins: 1 VOUTA (hiz) "Analog Output Voltage from DAC A. The output amplifier has rail-to-rail operation.", 2 VOUTB (hiz) "Analog Output Voltage from DAC B. The output amplifier has rail-to-rail operation.", 3 GND (power) "Ground Reference Point for All Circuitry on the Part.", 4 ~{LDAC} (in) "Pulsing this pin low allows any or all DAC registers to be updated if the input registers have new data.This allows simultaneous update of all DAC outputs. Alternatively, this pin can be tied permanently low.", 5 ~{CLR} (in) "Asynchronous Clear Input. The C\L\R\ input is falling edge sensitive. While C\L\R\ is low, all L\D\A\C\ pulses are ignored.When C\L\R\ is activated, zero scale is loaded to all input and DAC registers. This clears the output (See Datasheet)", 6 ~{SYNC} (in) "Active Low Control Input. This is the frame synchronization signal for the input data. When S\Y\N\C\ goes low,it powers on the SCLK and DIN buffers and enables the input shift register. Data is transferred in on the falling (See Datasheet)", 7 SCLK (in) "Serial Clock Input. Data is clocked into the input shift register on the falling edge of the serial clock input.Data can be transferred at rates up to 50 MHz.", 8 DIN (in) "Serial Data Input. This device has a 24-bit shift register. Data is clocked into the register on the falling edge of the serial clock input.", 9 VDD (power) "Power Supply Input. These parts can be operated from 2.7 V to 5.5 V, and the supply should be decoupled with a 10 uF capacitor in parallel with a 0.1 uF capacitor to GND.", 10 VREF (in) "Reference Voltage Input."

## AD5663BRMZ-1
designator U?
Dual 16-Bit Rail-to-Rail Output nanoDAC, 2.7 to 5.5 V, 250 uA, -40 to +105 degC, RM-10, Pb-Free, Tube; Generic Part Number: AD5663; Manufacturer: Analog Devices; PartNumber: AD5663BRMZ-1; # DAC Outputs: 2; Max V+: 5.5V; Op Pwr Diss: 2.5mW; Resolution (Bits): 16; Settling Time: 4µs; Single Supply: Yes; DatasheetVersion: Rev.0; PackageVersion: May-2005; PackageReference: RM-10; PackageDescription: 10-Lead Mini Small Outline Package [MSOP]; Supplier 1: Digi-Key; Supplier Part Number 1: AD5663BRMZ-1-ND; Supplier 2: Farnell; Supplier Part Number 2: 1274262; Supplier 3: Newark; Supplier Part Number 3: 31M4146; Supplier 4: Newark; Supplier Part Number 4: 19M0835; Supplier 5: Mouser; Supplier Part Number 5: 584-AD5663BRMZ-1; Packing: Tube; RoHS: Y; Mounting Technology: Surface Mount; ComponentLink1Description: Manufacturer URL; ComponentLink1URL: http://www.analog.com/en/index.html; ComponentLink2Description: Datasheet; ComponentLink2URL: http://www.analog.com/static/imported-files/data_sheets/AD5663.pdf; ComponentLink3Description: Package Specification; ComponentLink3URL: http://www.analog.com/static/imported-files/packages/PKG_PDF/MSOP%28RM%29/RM_10.pdf; ComponentLink4Description: Product URL; ComponentLink4URL: http://www.analog.com/en/digital-to-analog-converters/da-converters/ad5663/products/product.html
footprint RM-10_N (TSSOP, 10-Leads, Body 3x3mm, Pitch 0.5mm, IPC Medium Density)
footprint RM-10_L (TSSOP, 10-Leads, Body 3x3mm, Pitch 0.5mm, IPC High Density)
footprint RM-10_M (TSSOP, 10-Leads, Body 3x3mm, Pitch 0.5mm, IPC Low Density)
pins: 1 VOUTA (hiz) "Analog Output Voltage from DAC A. The output amplifier has rail-to-rail operation.", 2 VOUTB (hiz) "Analog Output Voltage from DAC B. The output amplifier has rail-to-rail operation.", 3 GND (power) "Ground Reference Point for All Circuitry on the Part.", 4 ~{LDAC} (in) "Pulsing this pin low allows any or all DAC registers to be updated if the input registers have new data.This allows simultaneous update of all DAC outputs. Alternatively, this pin can be tied permanently low.", 5 ~{CLR} (in) "Asynchronous Clear Input. The C\L\R\ input is falling edge sensitive. While C\L\R\ is low, all L\D\A\C\ pulses are ignored.When C\L\R\ is activated, zero scale is loaded to all input and DAC registers. This clears the output (See Datasheet)", 6 ~{SYNC} (in) "Active Low Control Input. This is the frame synchronization signal for the input data. When S\Y\N\C\ goes low,it powers on the SCLK and DIN buffers and enables the input shift register. Data is transferred in on the falling (See Datasheet)", 7 SCLK (in) "Serial Clock Input. Data is clocked into the input shift register on the falling edge of the serial clock input.Data can be transferred at rates up to 50 MHz.", 8 DIN (in) "Serial Data Input. This device has a 24-bit shift register. Data is clocked into the register on the falling edge of the serial clock input.", 9 VDD (power) "Power Supply Input. These parts can be operated from 2.7 V to 5.5 V, and the supply should be decoupled with a 10 uF capacitor in parallel with a 0.1 uF capacitor to GND.", 10 VREF (in) "Reference Voltage Input."

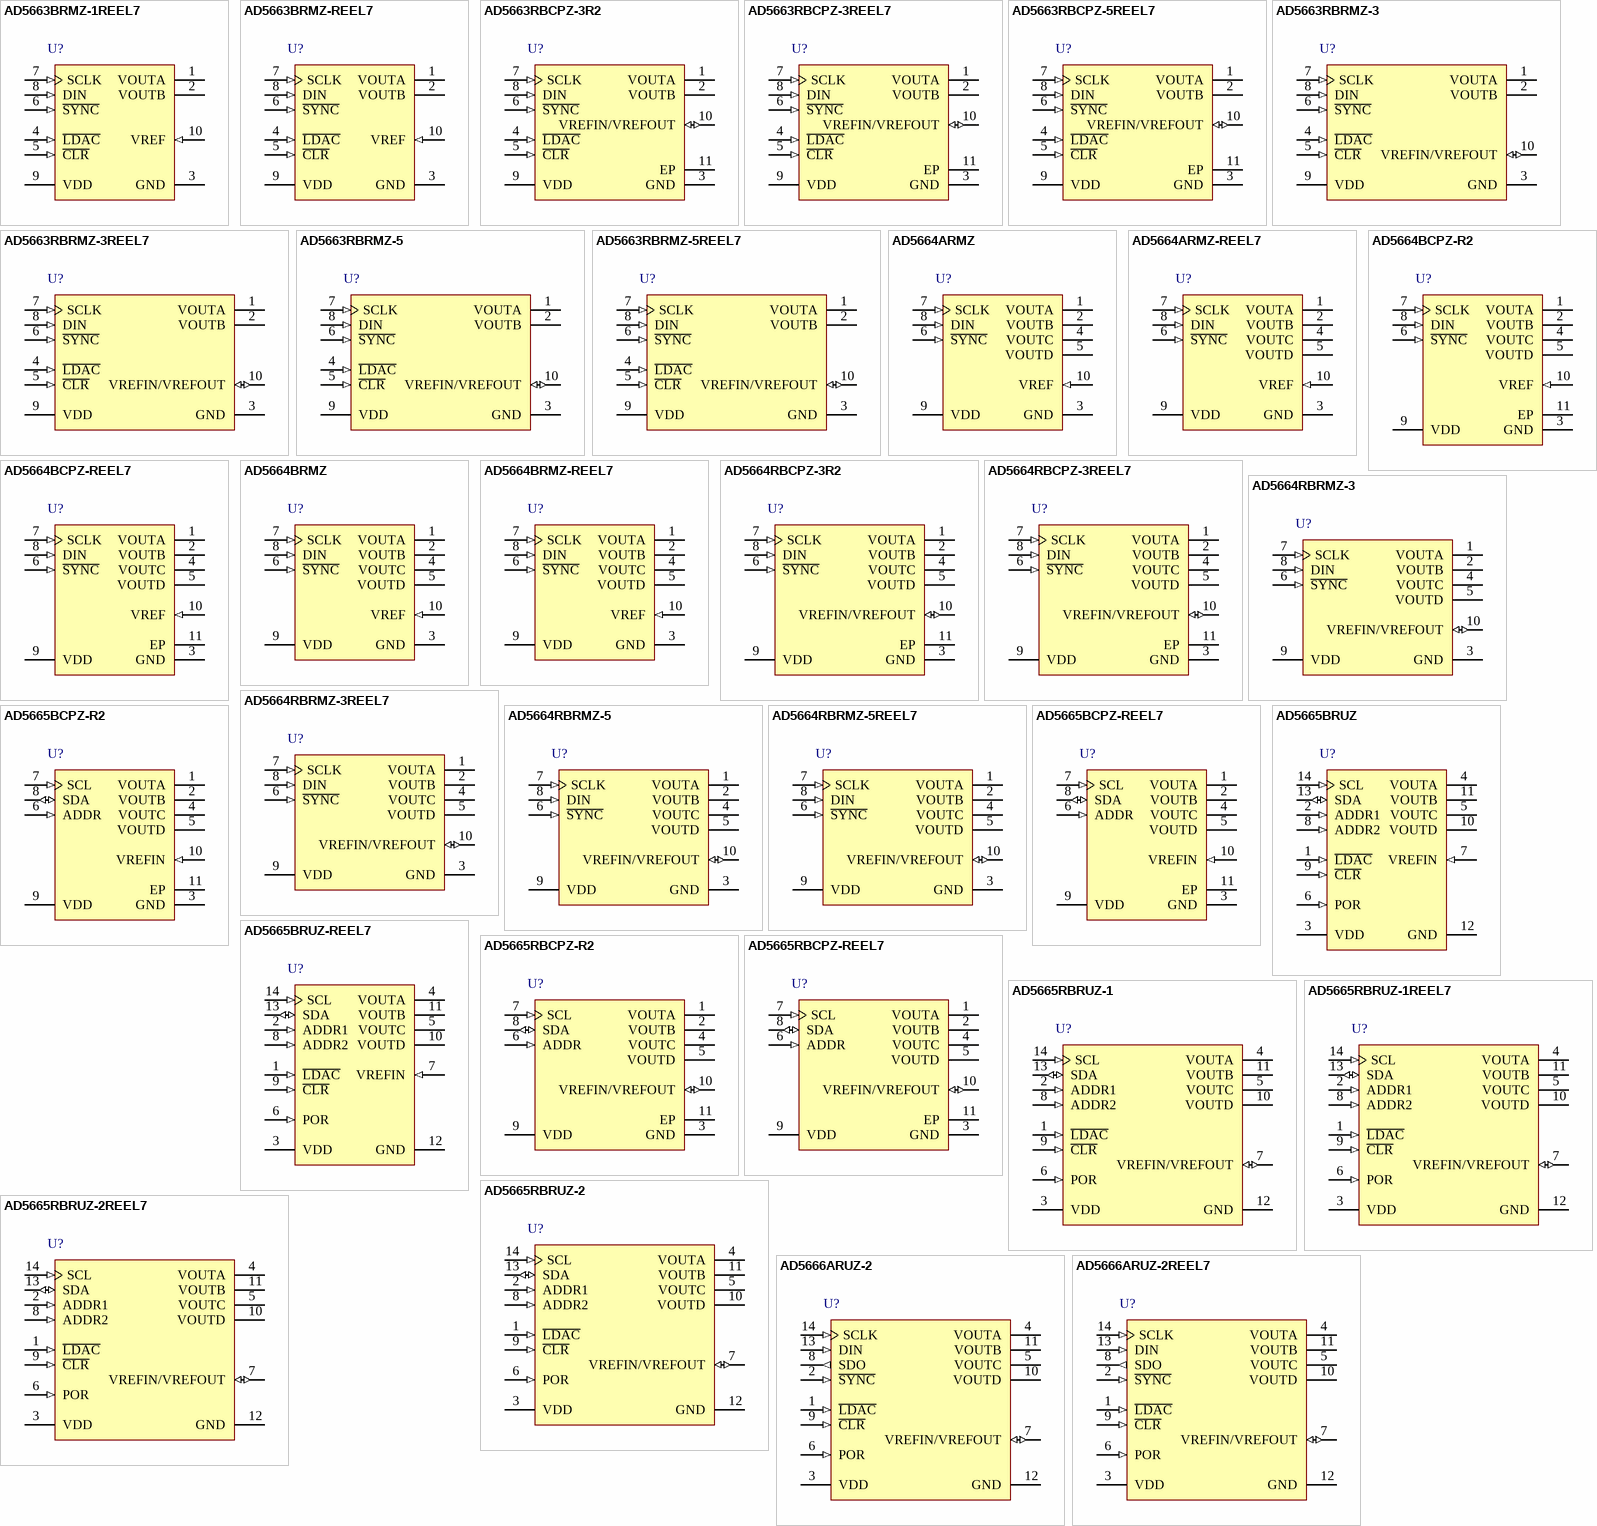
[diagram p49: symbols AD5663BRMZ-1REEL7 to AD5666ARUZ-2REEL7]